# Altium schematic symbol library Boosty.SchLib: 1 symbol
Pins are listed as number, name and electrical type; pins without a type are passive.

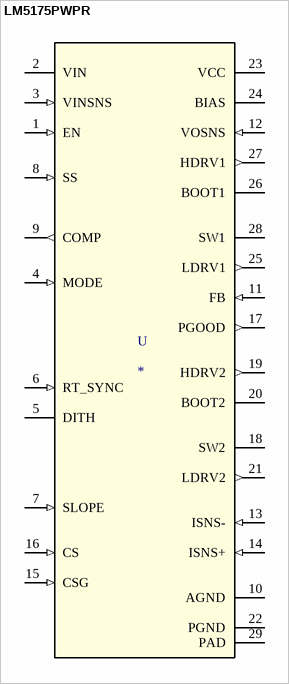
[diagram p0: symbol LM5175PWPR]

## LM5175PWPR
designator U
footprint LM5175PWPR
pins: 1 EN (in), 2 VIN (power), 3 VINSNS (in), 4 MODE (in), 5 DITH, 6 RT_SYNC (in), 7 SLOPE (in), 8 SS (in), 9 COMP (out), 10 AGND (power), 11 FB (in), 12 VOSNS (in), 13 ISNS- (in), 14 ISNS+ (in), 15 CSG (in), 16 CS (in), 17 PGOOD (out), 18 SW2 (power), 19 HDRV2 (out), 20 BOOT2 (power), 21 LDRV2 (out), 22 PGND (power), 23 VCC (power), 24 BIAS (power), 25 LDRV1 (out), 26 BOOT1 (power), 27 HDRV1 (out), 28 SW1 (power), 29 PAD (power)